# Altium schematic symbol library CLK_DISTRO.SchLib: 13 symbols
Pins are listed as number, name and electrical type; pins without a type are passive.

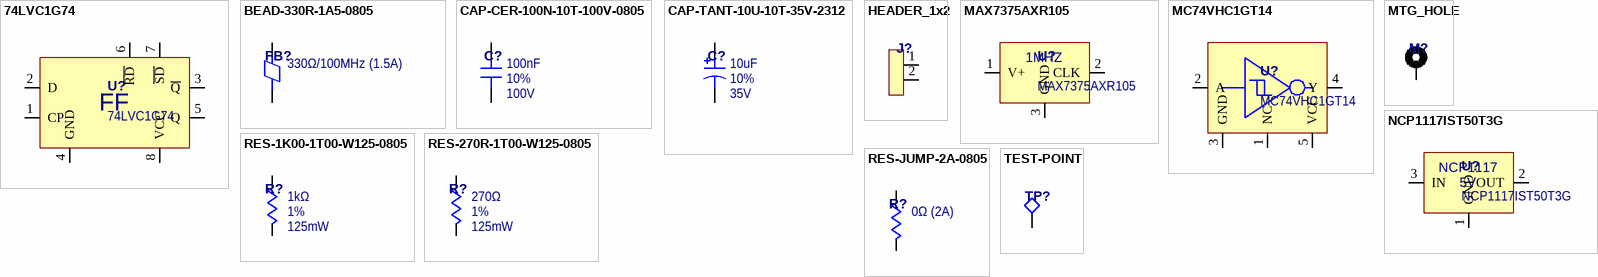
[diagram p0: symbols 74LVC1G74 to TEST-POINT]

## 74LVC1G74
designator U?
D-Type Flip-Flop, TTL; Supplier 1: Digi-Key; Supplier Part Number 1: 1727-7463-1-ND
footprint TSSOP-8 (TSOP, 8-Leads, Body 3.00x3.00mm, Pitch 0.65mm, IPC Low Density)
pins: 1 CP, 2 D, 3 ~{Q}, 4 GND, 5 Q, 6 ~{RD}, 7 ~{SD}, 8 VCC
text: FF

## BEAD-330R-1A5-0805
designator FB?, comment value 330Ω/100MHz (1.5A)  (hidden comment: 553-2394-1-ND)
BEAD, 330Ω/100MHz, 1.5A, 0805; Supplier 1: Digi-Key; Supplier Part Number 1: 553-2394-1-ND
footprint C0805
pins: 1, 2

## CAP-CER-100N-10T-100V-0805
designator C?, comment value 100nF  Voltage: 100V  Tolerance: 10%  (hidden comment: 732-12244-1-ND)
CAP, CER, 100nF ±10%, 100V, 0805; Supplier 1: Digi-Key; Supplier Part Number 1: 732-12244-1-ND
footprint C0805
pins: 1, 2

## CAP-TANT-10U-10T-35V-2312
designator C?, comment value 10uF  Voltage: 35V  Tolerance: 10%  (hidden comment: 478-7582-1-ND)
CAP, TANT, 10uF ±10%, 35V, 2312; Supplier 1: Digi-Key; Supplier Part Number 1: 478-7582-1-ND
footprint TRJC
pins: 1, 2

## HEADER_1x2
designator J?  (no BOM)
Header 1x2 THT
footprint Header_1x2
pins: 1 12, 2 12

## MAX7375AXR105
designator U?
OSC, 1MHz, CMOS; Supplier 1: Digi-Key; Supplier Part Number 1: MAX7375AXR105+TCT-ND
footprint SC70 (SOT23, 3-Leads, Body 2.00x2.10mm, Pitch 0.65mm, IPC Low Density)
pins: 1 V+, 2 CLK, 3 GND
text: 1MHZ

## MC74VHC1GT14
designator U?
Schmitt Trigger Inverter, TTL; Supplier 1: Digi-Key; Supplier Part Number 1: M74VHC1GT14DTT1GOSCT-ND
footprint TSOP-5 (SOT23, 5-Leads, Body 3.00x2.75mm, Pitch 0.95mm, IPC Low Density)
pins: 1 NC, 2 A, 3 GND, 4 Y, 5 VCC

## MTG_HOLE
designator M?  (no BOM)
Mounting Hole
footprint MTG_HOLE_No4
pins: 1 12

## NCP1117IST50T3G
designator U?
Low-Dropout Regulator, 5V, 1A; Supplier 1: Digi-Key; Supplier Part Number 1: 488-NCP1117IST50T3GCT-ND
footprint SOT223 (SOT223, 4-Leads, Body 6.50x7.00mm (avg), Pitch 2.30mm, IPC Low Density)
pins: 1 GND, 2 OUT, 3 IN
text: NCP1117; 5V

## RES-1K00-1T00-W125-0805
designator R?, comment value 1kΩ  Tolerance: 1%  Power: 125mW  (hidden comment: RMCF0805FT1K00CT-ND)
RES, 1.00kΩ ±1.00%, 125mW, 0805; Supplier 1: Digi-Key; Supplier Part Number 1: RMCF0805FT1K00CT-ND
footprint R0805
pins: 1, 2

## RES-270R-1T00-W125-0805
designator R?, comment value 270Ω  Tolerance: 1%  Power: 125mW  (hidden comment: RMCF0805FT270RCT-ND)
RES, 270Ω ±1.00%, 125mW, 0805; Supplier 1: Digi-Key; Supplier Part Number 1: RMCF0805FT270RCT-ND
footprint R0805
pins: 1, 2

## RES-JUMP-2A-0805
designator R?, comment value 0Ω (2A)  (hidden comment: RMCF0805ZT0R00CT-ND)
RES, JUMP, 0Ω, 2A, 0805; Supplier 1: Digi-Key; Supplier Part Number 1: RMCF0805ZT0R00CT-ND
footprint R0805
pins: 1, 2

## TEST-POINT
designator TP?, comment 36-1033-ND  (value not drawn)
Test Point Loop; Supplier 1: Digi-Key; Supplier Part Number 1: 36-1033-ND
footprint TESTPOINT
pins: 1 12